# EAGLE library part TS5A3359DCUT (library TS5A3359DCUT)
Texas Instruments TS5A3359DCUT, Analogue Switch Single SP3T, 3.3 V, 5 V, 8-Pin VSSOP Source: Datasheet <http://www.ti.com/general/docs/lit/getliterature.tsp?genericPartNumber=TS5A3359&&fileType=pdf>
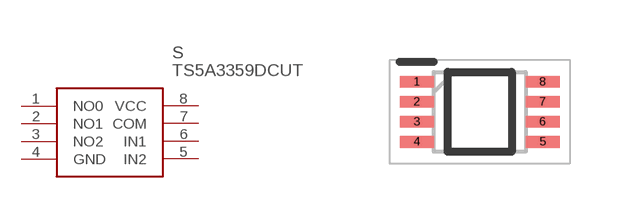
[diagram p0: symbol with the pads of SOP50P310X90-8N; footprint SOP50P310X90-8N]

Designator prefix S

## TS5A3359DCUT (Description: Texas Instruments TS5A3359DCUT, Analogue Switch Single SP3T, 3.3 V, 5 V, 8-Pin VSSOP; Height: 0.9mm; Manufacturer_Name: Texas Instruments; Manufacturer_Part_Number: TS5A3359DCUT; Mouser_Part_Number: 595-TS5A3359DCUT; Mouser_Price-Stock: https://www.mouser.co.uk/ProductDetail/Texas-Instruments/TS5A3359DCUT?qs=0O%2FZFlpUpJWZahDSKJBJfQ%3D%3D)  [SOP50P310X90-8N]
1  NO0
2  NO1
3  NO2
4  GND
5  IN2
6  IN1
7  COM
8  VCC

## Footprint SOP50P310X90-8N (pad centres in mm)
DCU (R-PDSO-G8)
smd 0.85 x 0.3: 1 -1.575,0.75; 2 -1.575,0.25; 3 -1.575,-0.25; 4 -1.575,-0.75; 5 1.575,-0.75; 6 1.575,-0.25; 7 1.575,0.25; 8 1.575,0.75